# Altium schematic symbol library sch_Library.SchLib: 6 symbols
Pins are listed as number, name and electrical type; pins without a type are passive.

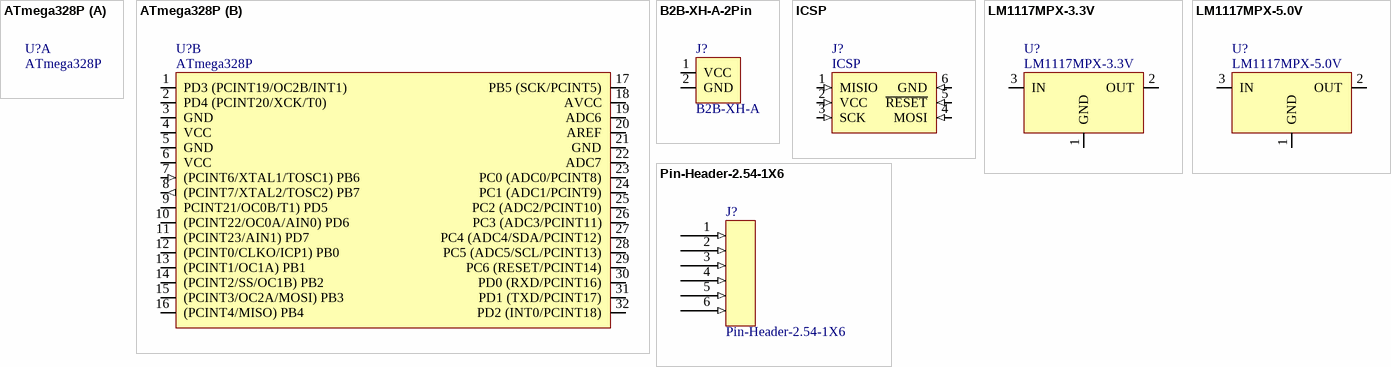
[diagram p0: symbols ATmega328P to Pin-Header-2.54-1X6]

## ATmega328P
designator U?
8-bit AVR Microcontroller with 32K Bytes In-System / Programmable Flash
footprint TQFP80P900X900X120-32N (TQFP, 32-Leads, Body 7,00x7,00mm, Pitch 0,80mm, IPC Medium Density)
part B pins: 1 PD3 (PCINT19/OC2B/INT1)  (io), 2 PD4 (PCINT20/XCK/T0)  (io), 3 GND (power), 4 VCC (power), 5 GND (power), 6 VCC (power), 7 (PCINT6/XTAL1/TOSC1) PB6 (in), 8 (PCINT7/XTAL2/TOSC2) PB7 (out), 9 PCINT21/OC0B/T1) PD5 (io), 10 (PCINT22/OC0A/AIN0) PD6 (io), 11 (PCINT23/AIN1) PD7 (io), 12 (PCINT0/CLKO/ICP1) PB0 (io), 13 (PCINT1/OC1A) PB1 (io), 14 (PCINT2/SS/OC1B) PB2 (io), 15 (PCINT3/OC2A/MOSI) PB3 (io), 16 (PCINT4/MISO) PB4 (io), 17 PB5 (SCK/PCINT5) (io), 18 AVCC (power), 19 ADC6 (io), 20 AREF (power), 21 GND (power), 22 ADC7 (io), 23 PC0 (ADC0/PCINT8) (io), 24 PC1 (ADC1/PCINT9) (io), 25 PC2 (ADC2/PCINT10) (io), 26 PC3 (ADC3/PCINT11) (io), 27 PC4 (ADC4/SDA/PCINT12) (io), 28 PC5 (ADC5/SCL/PCINT13) (io), 29 PC6 (RESET/PCINT14) (io), 30 PD0 (RXD/PCINT16) (io), 31  PD1 (TXD/PCINT17) (io), 32   PD2 (INT0/PCINT18) (io)

## B2B-XH-A-2Pin
designator J?, comment B2B-XH-A
footprint B2B-XH-A
pins: 1 VCC, 2 GND

## ICSP
designator J?
pins: 1 MISIO (in), 2 VCC (in), 3 SCK (in), 4 MOSI (in), 5 ~{RESET} (in), 6 GND (in)

## LM1117MPX-3.3V
designator U?
LM1117MPX-33NOPB; Vout: 5V
footprint SOT230P700X180-4N (SOT223, 4-Leads, Body 6,50x7,00mm (avg), Pitch 2,30mm, IPC Medium Density)
pins: 1 GND, 2 OUT, 3 IN

## LM1117MPX-5.0V
designator U?
LM1117MPX-50NOPB; Vout: 5V
footprint SOT230P700X180-4N (SOT223, 4-Leads, Body 6,50x7,00mm (avg), Pitch 2,30mm, IPC Medium Density)
pins: 1 GND, 2 OUT, 3 IN

## Pin-Header-2.54-1X6
designator J?
footprint PIN-HEADER-2.54MM-1X6
pins: 1 (in), 2 (in), 3 (in), 4 (in), 5 (in), 6 (in)